# EAGLE library part LM324DIE (library dice)
LM324 als DIE
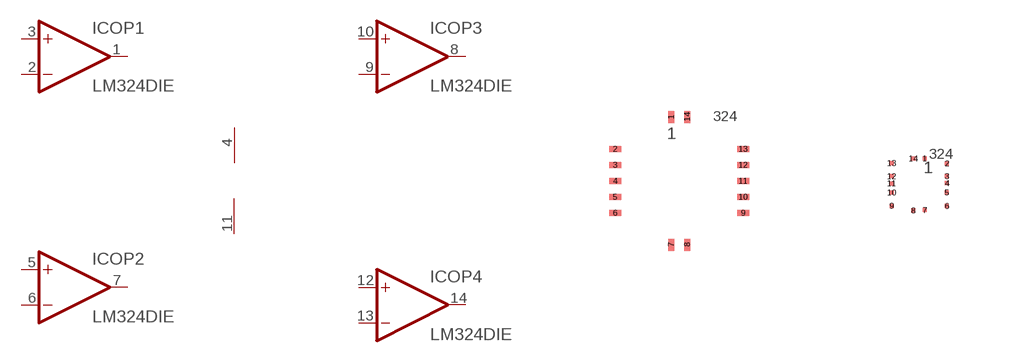
[diagram p0: symbol with the pads of DIE_LM324; footprints DIE_LM324, DIE_LM324_F]

Designator prefix IC; gates PWR=PWR+- OP1=OPAMP OP2=OPAMP OP3=OPAMP OP4=OPAMP

## LM324DIED  [DIE_LM324]
1  OP1:OUT  out
2  OP1:-IN  in
3  OP1:+IN  in
4  PWR:V+  pwr
5  OP2:+IN  in
6  OP2:-IN  in
7  OP2:OUT  out
8  OP3:OUT  out
9  OP3:-IN  in
10  OP3:+IN  in
11  PWR:V-  pwr
12  OP4:+IN  in
13  OP4:-IN  in
14  OP4:OUT  out

## LM324DIEF  [DIE_LM324_F]
1  OP4:OUT  out
2  OP4:-IN  in
3  OP4:+IN  in
4  PWR:V+  pwr
5  OP3:+IN  in
6  OP3:-IN  in
7  OP3:OUT  out
8  OP2:OUT  out
9  OP2:-IN  in
10  OP2:+IN  in
11  PWR:V-  pwr
12  OP1:+IN  in
13  OP1:-IN  in
14  OP1:OUT  out

## Footprint DIE_LM324 (pad centres in mm)
smd 0.15 x 0.3: 1 -0.2,1.6; 7 -0.2,-1.6; 8 0.2,-1.6; 14 0.2,1.6
smd 0.3 x 0.15: 2 -1.6,0.8; 3 -1.6,0.4; 4 -1.6,0; 5 -1.6,-0.4; 6 -1.6,-0.8; 9 1.6,-0.8; 10 1.6,-0.4; 11 1.6,0; 12 1.6,0.4; 13 1.6,0.8

## Footprint DIE_LM324_F (pad centres in mm)
smd 0.1 x 0.1: 1 0.154,0.642; 2 0.712,0.519; 3 0.709,0.199; 4 0.711,0.024; 5 0.708,-0.208; 6 0.709,-0.548; 7 0.157,-0.651; 8 -0.133,-0.659; 9 -0.674,-0.541; 10 -0.673,-0.21; 11 -0.674,0.019; 12 -0.675,0.197; 13 -0.674,0.528; 14 -0.134,0.641